# EAGLE library part PCA9512 (library philips_I2C_repeaters-hubs-expanders)
Level shifting hot swappable I2C buffer The PCA9512 is a hot swappable I2C and SMBus buffer that allows I/O card insertion into a live backplane without corruption of the data and clock buses and includes two dedicated supply voltage pins to provide level shifting between 3.3 V and 5 V systems while maintaining the best noise margin for each voltage level. Either pin may be powered with supply voltages ranging from 2.7 V to 5.5 V with no constraints on which supply voltage is higher. Control circuitry prevents the backplane from being connected to the card until a stop bit or bus idle occurs on the backplane without bus contention on the card. When the connection is made, the PCA9512 provides bi-directional buffering, keeping the backplane and card capacitances isolated.
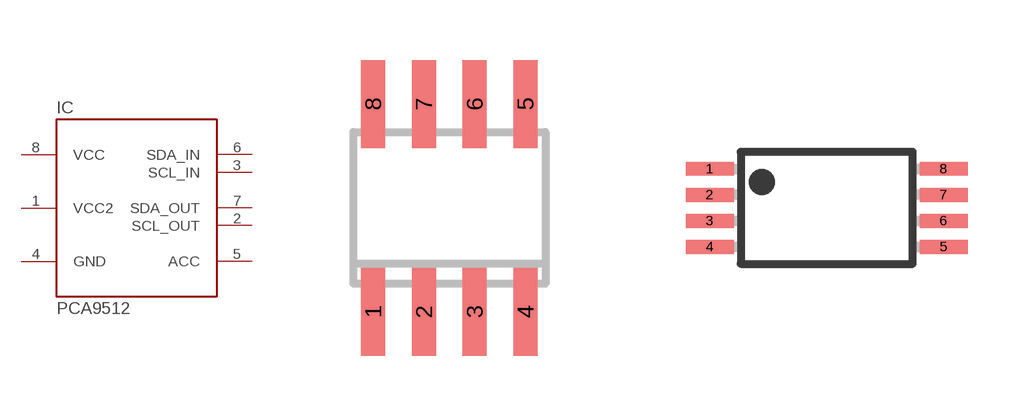
[diagram p0: symbol with the pads of SO8; footprints SO8, TSSOP8]

Designator prefix IC

## PCA9512D-T  [SO8]
1  VCC2  pwr
2  SCL_OUT  out
3  SCL_IN  in
4  GND  pwr
5  ACC  in
6  SDA_IN  in
7  SDA_OUT  out
8  VCC  pwr

## PCA9512DP-T  [TSSOP8]
Pads as for SO8

## Footprint SO8 (pad centres in mm)
SMALL OUTLINE INTEGRATED CIRCUIT
smd 0.6 x 2.2: 1 -1.905,-2.6; 2 -0.635,-2.6; 3 0.635,-2.6; 4 1.905,-2.6; 5 1.905,2.6; 6 0.635,2.6; 7 -0.635,2.6; 8 -1.905,2.6

## Footprint TSSOP8 (pad centres in mm)
Plastic Small Outline
smd 1.2 x 0.35: 1 -2.925,0.975; 2 -2.925,0.325; 3 -2.925,-0.325; 4 -2.925,-0.975; 5 2.925,-0.975; 6 2.925,-0.325; 7 2.925,0.325; 8 2.925,0.975